# Altium footprint library mylib.PcbLib: 127 footprints (part 7 of 8)
Each footprint in its own frame and in the unit in brackets; x right, y up, seen from the top. Pads: shape width x height; smd on the part's side, far side on the other; paste and mask are expansions set on the pad; w line width, h text height; cw(c..) or ccw(c..) is an arc to the next point about the centre after c.
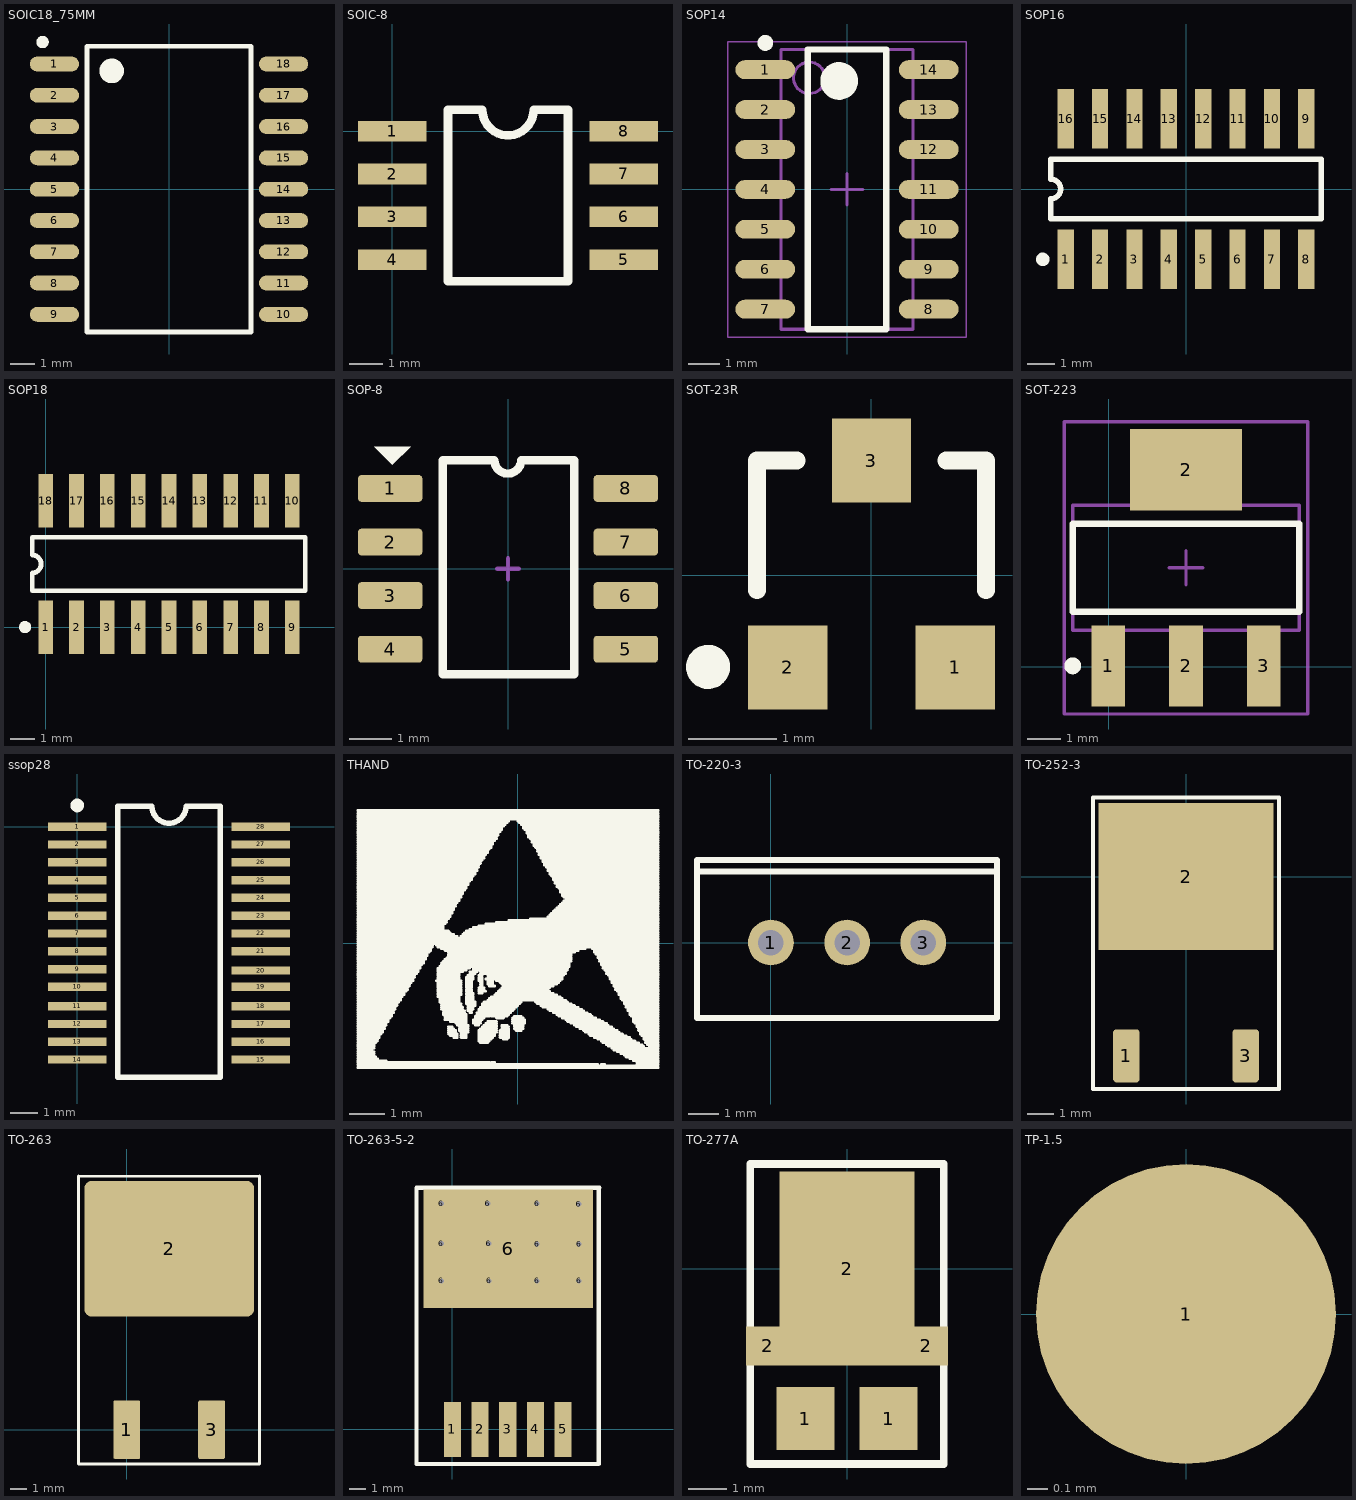
[diagram p6: the footprints below, top view; thin cyan lines are the x and y axes]

## SOIC18_75MM [mm]
pads (18):
  oval 2x0.6 smd: 1(-4.65,5.08) 2(-4.65,3.81) 3(-4.65,2.54) 4(-4.65,1.27) 5(-4.65,0) 6(-4.65,-1.27) 7(-4.65,-2.54) 8(-4.65,-3.81) 9(-4.65,-5.08) 10(4.65,-5.08) 11(4.65,-3.81) 12(4.65,-2.54) 13(4.65,-1.27) 14(4.65,0) 15(4.65,1.27) 16(4.65,2.54) 17(4.65,3.81) 18(4.65,5.08)
Top Overlay:
  circle w0.5: c-2.325,4.8 r0.25
  circle w0.25: c-5.129,5.969 r0.125
  lines w0.2: -3.325,-5.8 3.325,-5.8 3.325,5.8 -3.325,5.8 -3.325,-5.8

## SOIC-8 [mil]
pads (8):
  rect 80x24 smd: 1(0,0) 2(0,-50.06) 3(0,-100.06) 4(0,-150.06) 5(270,-150) 6(270,-100) 7(270,-50) 8(270,0)
Top Overlay:
  lines w10: 75,24.94 75.06,25 105,25 ccw(c135,25) 165,25 204.94,25 205,24.94 205,-175.06 65,-175.06 65,24.94 95,24.94

## SOP14 [mm] "SOIC, 14-Leads, Body 8.55x3.95mm, Pitch 1.27mm, IPC Medium Density"
height 1.7
pads (14):
  oval 1.9x0.6 smd: 1(-2.6,3.81) 2(-2.6,2.54) 3(-2.6,1.27) 4(-2.6,0) 5(-2.6,-1.27) 6(-2.6,-2.54) 7(-2.6,-3.81) 8(2.6,-3.81) 9(2.6,-2.54) 10(2.6,-1.27) 11(2.6,0) 12(2.6,1.27) 13(2.6,2.54) 14(2.6,3.81)
Top Overlay:
  circle w0.25: c-2.6,4.66 r0.125
  circle w0.6: c-0.25,3.45 r0.3
  lines w0.2: -1.25,-4.45 -1.25,4.45 1.25,4.45 1.25,-4.45 -1.25,-4.45
Mechanical 13:
  circle w0.1: c-1.2,3.55 r0.5
  lines w0.1: -2.1,-4.45 -2.1,4.45 2.1,4.45 2.1,-4.45 -2.1,-4.45
Mechanical 15:
  lines w0.05: -3.8,-4.7 -3.8,4.7 3.8,4.7 3.8,-4.7 -3.8,-4.7
  lines w0.1: -0.5,0 0.5,0 ; 0,-0.5 0,0.5
3D body: height 1.7, standoff 0.16, extent -2.1,-4.45 2.1,4.45

## SOP16 [mm]
pads (16):
  rect 0.6x2.2 smd: 1(-4.445,-2.6) 2(-3.175,-2.6) 3(-1.905,-2.6) 4(-0.635,-2.6) 5(0.635,-2.6) 6(1.905,-2.6) 7(3.175,-2.6) 8(4.445,-2.6) 9(4.445,2.6) 10(3.175,2.6) 11(1.905,2.6) 12(0.635,2.6) 13(-0.635,2.6) 14(-1.905,2.6) 15(-3.175,2.6) 16(-4.445,2.6)
Top Overlay:
  circle w0.25: c-5.295,-2.6 r0.125
  lines w0.2: -5,-1.1 5,-1.1 5,1.1 -5,1.1 -5,0.367 cw(c-5,0) -5,-0.367 -5,-1.1

## SOP18 [mm]
pads (18):
  rect 0.6x2.2 smd: 1(0,0) 2(1.27,0) 3(2.54,0) 4(3.81,0) 5(5.08,0) 6(6.35,0) 7(7.62,0) 8(8.89,0) 9(10.16,0) 10(10.16,5.2) 11(8.89,5.2) 12(7.62,5.2) 13(6.35,5.2) 14(5.08,5.2) 15(3.81,5.2) 16(2.54,5.2) 17(1.27,5.2) 18(0,5.2)
Top Overlay:
  circle w0.25: c-0.85,0 r0.125
  lines w0.2: -0.555,1.5 -0.555,2.233 ccw(c-0.555,2.6) -0.555,2.967 -0.555,3.7 10.693,3.7 10.693,1.5 -0.555,1.5

## SOP-8 [mil]
pads (8):
  rrect25% 60x25 smd: 1(-110,75) 2(-110,25) 3(-110,-25) 4(-110,-75) 5(110,-75) 6(110,-25) 7(110,25) 8(110,75)
Top Overlay:
  region: -108,97 -125,114 -91,114
  lines w7.87: -61,-98.57 -61,101.43 -12.71,101.43 ccw(c-0.21,101.43) 12.29,101.43 62,101.43 62,-98.57 -61,-98.57
Mechanical 1:
  lines w4: -10,0 10,0 ; 0,-10 0,10
3D body: height 68.9, standoff 0.01, extent -118.34,-98 118.34,98.85

## SOT-23R [mm]
pads (3):
  rect 0.9x0.95 smd: 1(0.95,-1.048) 2(-0.95,-1.048) 3(0,1.302)
Top Overlay:
  circle w0.25: c-1.856,-1.041 r0.125
  lines w0.2: -1.3,-0.173 -1.3,1.302 -0.85,1.302 ; 0.85,1.302 1.3,1.302 1.3,-0.173

## SOT-223 [mm]
pads (4):
  rect 1x2.4 smd: 1(-0.014,0.021) 2(2.286,0.021) 3(4.586,0.021)
  rect 3.3x2.4 smd: 2(2.286,5.821)
Top Overlay:
  circle w0.25: c-1.064,0.021 r0.125
  lines w0.2: -1.064,1.621 -1.064,4.221 5.636,4.221 5.636,1.621 -1.064,1.621
Mechanical 13:
  lines w0.1: -1.064,1.071 -1.064,4.771 5.636,4.771 5.636,1.071 -1.064,1.071
Mechanical 15:
  lines w0.1: 1.786,2.921 2.786,2.921 ; 2.286,2.421 2.286,3.421 ; -1.314,-1.404 -1.314,7.246 5.886,7.246 5.886,-1.404 -1.314,-1.404

## ssop28 [mm]
pads (28):
  rect 2.15x0.305 smd: 1(0,0) 2(0,-0.65) 3(0,-1.3) 4(0,-1.95) 5(0,-2.6) 6(0,-3.25) 7(0,-3.9) 8(0,-4.55) 9(0,-5.2) 10(0,-5.85) 11(0,-6.552) 12(0,-7.202) 13(0,-7.852) 14(0,-8.502) 15(6.7,-8.502) 16(6.7,-7.852) 17(6.7,-7.202) 18(6.7,-6.552) 19(6.7,-5.85) 20(6.7,-5.252) 21(6.7,-4.55) 22(6.7,-3.9) 23(6.7,-3.25) 24(6.7,-2.6) 25(6.7,-1.95) 26(6.7,-1.3) 27(6.7,-0.65) 28(6.7,0)
Top Overlay:
  circle w0.25: c0,0.775 r0.125
  lines w0.2: 1.475,-9.144 5.225,-9.144 5.225,0.75 3.975,0.75 cw(c3.35,0.75) 2.725,0.75 1.475,0.75 1.475,-9.144

## THAND [mm]
Top Overlay:
  drawing of 472 lines, arcs and shapes, not listed

## TO-220-3 [mil]
pads (3):
  round 60 hole 33.46: 1(0,0) 2(100,0) 3(200,0)
Top Overlay:
  lines w7.87: -97,93 296.7,93 ; -97,-99 90.58,-99 296.7,-99 296.7,0 296.7,108.27 99.85,108.27 -97,108.27 -97,0 -97,-99

## TO-252-3 [mil]
pads (3):
  rrect25% 40x80 smd: 1(-89.76,-270) 3(89.76,-270)
  rect 263.78x221 smd: 2(0,0)
Top Overlay:
  lines w6: -140,-320 140,-320 140,119 -140,119 -140,-320
Mechanical 1:
  lines w4: -10,-90 10,-90 ; 0,-100 0,-80
3D body: height 90.55, standoff 0, extent -130,-287.95 129.05,93.94

## TO-263 [mm]
pads (3):
  rrect10% 1.6x3.5 smd: 1(0,0) 3(5.08,0)
  rrect10% 10.16x8.128 smd: 2(2.54,10.839)
Top Overlay:
  lines w0.152: -2.896,15.189 7.95,15.189
  lines w0.203: -2.896,15.189 -2.896,-2.057 7.95,-2.057 7.95,15.189
3D body: height 5.05, standoff 0.03, extent -2.565,-0.965 7.595,14.298

## TO-263-5-2 [mil]
pads (18):
  rect 41.34x133.86 smd: 1(0,0) 2(66.93,0) 3(133.86,0) 4(200.79,0) 5(267.72,0)
  round 24 hole 12: 6(-27,360) 6(-27,450) 6(-27,547) 6(86,547) 6(88,450) 6(89,360) 6(205,360) 6(205,449) 6(205,547) 6(306,546) 6(307,360) 6(307,449)
  rect 411.42x287.4 smd: 6(135.17,437.37)
Top Overlay:
  lines w10: -87.44,585.63 -87.44,-83.66 354.37,-83.66 354.37,585.63 ; -85.44,585.63 356.37,585.63
3D body: height 179.53, standoff 0, extent -65,-14 335,537.77

## TO-277A [mil]
pads (5):
  rect 60x65 smd: 1(-43,-155) 1(43,-155)
  rect 45x40 smd: 2(-82,-80) 2(82,-80)
  rect 140x200 smd: 2(0,0)
Top Overlay:
  lines w8: -100,-202 -100,108 100,108 100,-202 -100,-202
3D body: height 49.24, standoff 1.96, extent -93.5,-177 93.5,84.81

## TP-1.5 [mm]
pads (1):
  round 1.5 smd: 1(0,0)